# Altium schematic symbol library HEADER.Schlib: 4 symbols
Pins are listed as number, name and electrical type; pins without a type are passive.

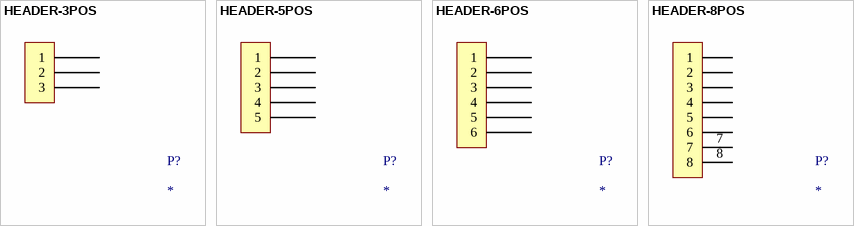
[diagram p0: symbols HEADER-3POS to HEADER-8POS]

## HEADER-3POS
designator P?
pins: 1, 2, 3

## HEADER-5POS
designator P?
pins: 1, 2, 3, 4, 5

## HEADER-6POS
designator P?
pins: 1, 2, 3, 4, 5, 6

## HEADER-8POS
designator P?
pins: 1, 2, 3, 4, 5, 6, 7, 8